# EAGLE library part LSM9DS1TR (library chips)
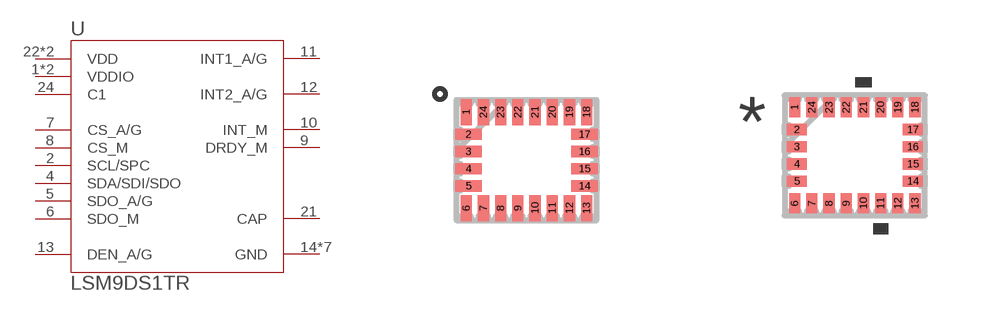
[diagram p105: symbol with the pads of LGA-24_3X3P5X1_STM; footprints LGA-24_3X3P5X1_STM, LGA-24_3X3P5X1_STM-M]

Designator prefix U

## LSM9DS1TR (DIGIKEY: 497-14946-1-ND; MPN: LSM9DS1TR; VENDOR: STMicroelectronics)  [LGA-24_3X3P5X1_STM]
1  VDDIO  pwr
2  SCL/SPC
3  VDDIO  pwr
4  SDA/SDI/SDO
5  SDO_A/G  out
6  SDO_M  out
7  CS_A/G
8  CS_M
9  DRDY_M
10  INT_M
11  INT1_A/G
12  INT2_A/G
13  DEN_A/G
14  GND  pwr
15  GND  pwr
16  GND  pwr
17  GND  pwr
18  GND  pwr
19  GND  pwr
20  GND  pwr
21  CAP  pas
22  VDD  pwr
23  VDD  pwr
24  C1

## LSM9DS1TRLGA-24_3X3P5X1_STM-M (BUILT_BY: EMA_Jessica; COPYRIGHT: Copyright (C) 2018 Accelerated Designs. All rights reserved; MANUFACTURER_PART_NUMBER: LSM9DS1TR; SOURCELIBRARY: STMicro_2020-01-02; VENDOR: STMicroelectronics)  [LGA-24_3X3P5X1_STM-M]
Pads as for LGA-24_3X3P5X1_STM

## LSM9DS1TRLGA-24_3X3P5X1_STM-L (BUILT_BY: EMA_Jessica; COPYRIGHT: Copyright (C) 2018 Accelerated Designs. All rights reserved; MANUFACTURER_PART_NUMBER: LSM9DS1TR; SOURCELIBRARY: STMicro_2020-01-02; VENDOR: STMicroelectronics)  [LGA-24_3X3P5X1_STM-L]
Pads as for LGA-24_3X3P5X1_STM

## Footprint LGA-24_3X3P5X1_STM (pad centres in mm)
smd 0.281 x 0.654: 1 -1.505,1.2; 6 -1.505,-1.2; 7 -1.075,-1.2; 8 -0.645,-1.2; 9 -0.215,-1.2; 10 0.215,-1.2; 11 0.645,-1.2; 12 1.075,-1.2; 13 1.505,-1.2; 18 1.505,1.2; 19 1.075,1.2; 20 0.645,1.2; 21 0.215,1.2; 22 -0.215,1.2; 23 -0.645,1.2; 24 -1.075,1.2
smd 0.654 x 0.281: 2 -1.45,0.645; 3 -1.45,0.215; 4 -1.45,-0.215; 5 -1.45,-0.645; 14 1.45,-0.645; 15 1.45,-0.215; 16 1.45,0.215; 17 1.45,0.645

## Footprint LGA-24_3X3P5X1_STM-M (pad centres in mm)
smd 0.281 x 0.502: 1 -1.505,1.2; 6 -1.505,-1.2; 7 -1.075,-1.2; 8 -0.645,-1.2; 9 -0.215,-1.2; 10 0.215,-1.2; 11 0.645,-1.2; 12 1.075,-1.2; 13 1.505,-1.2; 18 1.505,1.2; 19 1.075,1.2; 20 0.645,1.2; 21 0.215,1.2; 22 -0.215,1.2; 23 -0.645,1.2; 24 -1.075,1.2
smd 0.502 x 0.281: 2 -1.45,0.645; 3 -1.45,0.215; 4 -1.45,-0.215; 5 -1.45,-0.645; 14 1.45,-0.645; 15 1.45,-0.215; 16 1.45,0.215; 17 1.45,0.645

## Footprint LGA-24_3X3P5X1_STM-L (pad centres in mm)
smd 0.179 x 0.298: 1 -1.505,1.2; 6 -1.505,-1.2; 7 -1.075,-1.2; 8 -0.645,-1.2; 9 -0.215,-1.2; 10 0.215,-1.2; 11 0.645,-1.2; 12 1.075,-1.2; 13 1.505,-1.2; 18 1.505,1.2; 19 1.075,1.2; 20 0.645,1.2; 21 0.215,1.2; 22 -0.215,1.2; 23 -0.645,1.2; 24 -1.075,1.2
smd 0.298 x 0.179: 2 -1.45,0.645; 3 -1.45,0.215; 4 -1.45,-0.215; 5 -1.45,-0.645; 14 1.45,-0.645; 15 1.45,-0.215; 16 1.45,0.215; 17 1.45,0.645